# Altium footprint library DFN.PcbLib: 1 footprints
Each footprint in its own frame and in the unit in brackets; x right, y up, seen from the top. Pads: shape width x height; smd on the part's side, far side on the other; paste and mask are expansions set on the pad; w line width, h text height; cw(c..) or ccw(c..) is an arc to the next point about the centre after c.
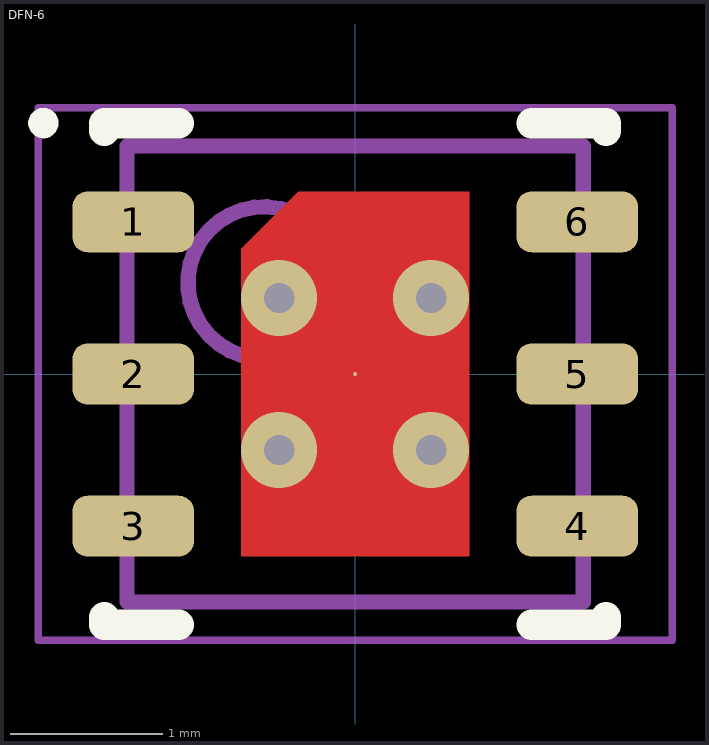
[diagram p0: the footprint, top view; thin cyan lines are the x and y axes]

## DFN-6 [mm]
height 1.1
pads (7):
  rrect50% 0.8x0.4 smd: 1(-1.46,1) 2(-1.46,0) 3(-1.46,-1) 4(1.46,-1) 5(1.46,0) 6(1.46,1)
  round 0.025 smd: 7(0,0)
via 0.5,-0.5 diameter 0.5 hole 0.2
via -0.5,-0.5 diameter 0.5 hole 0.2
via 0.5,0.5 diameter 0.5 hole 0.2
via -0.5,0.5 diameter 0.5 hole 0.2
Top Layer:
  region: -0.75,-1.2 -0.75,0.825 -0.375,1.2 0.75,1.2 0.75,-1.2
Top Overlay:
  circle w0.1: c-2.05,1.65 r0.05
  lines w0.2: -1.65,-1.6 -1.65,-1.65 -1.16,-1.65 ; -1.65,1.6 -1.65,1.65 -1.16,1.65 ; 1.16,-1.65 1.65,-1.65 1.65,-1.6 ; 1.16,1.65 1.65,1.65 1.65,1.6
Mechanical 13:
  circle w0.1: c-0.6,0.6 r0.5
  lines w0.1: -1.5,-1.5 1.5,-1.5 1.5,1.5 -1.5,1.5 -1.5,-1.5
Mechanical 15:
  lines w0.05: -2.085,-1.75 2.085,-1.75 2.085,1.75 -2.085,1.75 -2.085,-1.75
  lines w0.1: -0.5,0 0.5,0 ; 0,-0.5 0,0.5
3D body "DFN-6.step": height 1.1, standoff 0, extent -1.6,-1.5 1.6,1.5